# EAGLE library part USB4110-GF-A (library USB4110-GF-A)
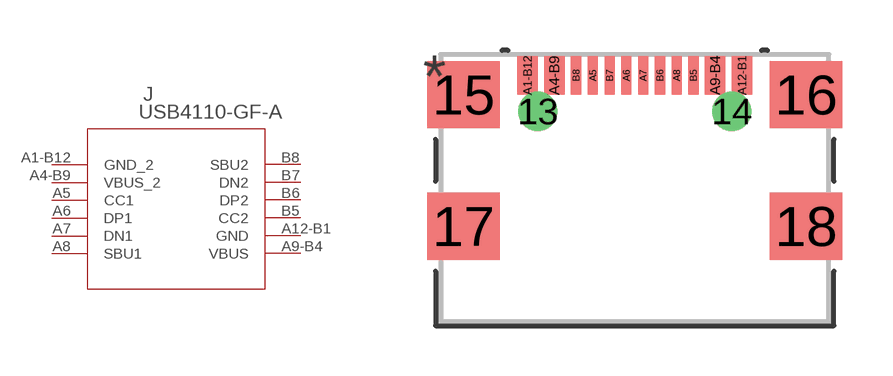
[diagram p0: symbol with the pads of USB4110-GF-A_GCT; footprint USB4110-GF-A_GCT]

Designator prefix J

## USB4110-GF-A (COPYRIGHT: Copyright (C) 2023 Ultra Librarian. All rights reserved.; MANUFACTURER_PART_NUMBER: USB4110-GF-A; MFR_NAME: Global Connector Technology)  [USB4110-GF-A_GCT]
A1-B12  GND_2  pas
A4-B9  VBUS_2  pwr
A5  CC1
A6  DP1
A7  DN1
A8  SBU1
A9-B4  VBUS  pwr
A12-B1  GND  pas
B5  CC2
B6  DP2
B7  DN2
B8  SBU2

## Footprint USB4110-GF-A_GCT (pad centres in mm)
drill 0.66 pad 0.66: 13 -2.896,2.286; 14 2.896,2.286
smd 2.159 x 2.007: 15 -5.11,2.788; 16 5.11,2.788; 17 -5.11,-1.142; 18 5.11,-1.142
smd 0.61 x 1.143: A1-B12 -3.2,3.363; A4-B9 -2.4,3.363; A9-B4 2.4,3.363; A12-B1 3.2,3.363
smd 0.305 x 1.143: A5 -1.25,3.363; A6 -0.25,3.363; A7 0.25,3.363; A8 1.25,3.363; B5 1.75,3.363; B6 0.75,3.363; B7 -0.75,3.363; B8 -1.75,3.363